# EAGLE library part AD5248 (library Mikes-Stuff)
10K 2-circuit digital potentiometer with 2 I2C address pins
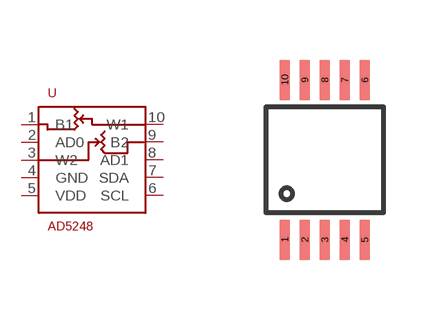
[diagram p19: symbol with the pads of MSOP-10; footprint MSOP-10]

Designator prefix -

## AD5248MSOP-10  [MSOP-10]
1  B1
2  AD0
3  W2
4  GND
5  VDD
6  SCL
7  SDA
8  AD1
9  B2
10  W1

## Footprint MSOP-10 (pad centres in mm)
smd 0.25 x 1: 1 -1,-2; 2 -0.5,-2; 3 0,-2; 4 0.5,-2; 5 1,-2; 6 1,2; 7 0.5,2; 8 0,2; 9 -0.5,2; 10 -1,2